# EAGLE library part PCA9605 (library nxp_60)
The PCA9605 is a monolithic CMOS integrated circuit for bus buffering in applications including I2C-bus, SMBus, DDC, PMBus, and other systems based on similar principles. AAL Eindhoven MK
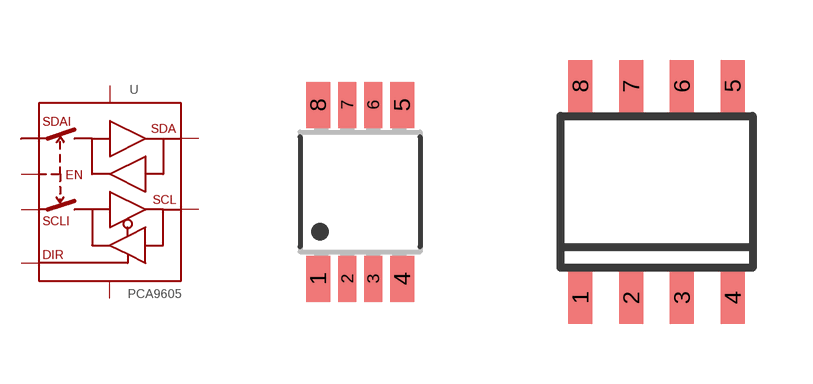
[diagram p29: symbol with the pads of SOT505-1; footprints SOT505-1, SOT96-1]

Designator prefix U

## PCA9605DP  [SOT505-1]
1  EN  in
2  SCL
3  SCLI
4  VSS  pwr
5  DIR  in
6  SDAI
7  SDA
8  VDD  pwr

## PCA9605P  [SOT96-1]
Pads as for SOT505-1

## Footprint SOT505-1 (pad centres in mm)
SOT505-1 TSSOP8: plastic thin shrink small outline package; 8 leads; body width 3 mm JEDEC: -- IEC: --
smd 0.6 x 1.15: 1 -1.05,-2.175; 4 1.05,-2.175; 5 1.05,2.175; 8 -1.05,2.175
smd 0.45 x 1.15: 2 -0.325,-2.175; 3 0.325,-2.175; 6 0.325,2.175; 7 -0.325,2.175

## Footprint SOT96-1 (pad centres in mm)
SOT96-1 SO8: plastic small outline package; 8 leads; body width 3.9 mm JEDEC: MS-012 IEC: 076E03
smd 0.6 x 1.3: 1 -1.905,-2.65; 2 -0.635,-2.65; 3 0.635,-2.65; 4 1.905,-2.65; 5 1.905,2.65; 6 0.635,2.65; 7 -0.635,2.65; 8 -1.905,2.65